# Altium footprint library PcbLib1.PcbLib: 4 footprints
Each footprint in its own frame and in the unit in brackets; x right, y up, seen from the top. Pads: shape width x height; smd on the part's side, far side on the other; paste and mask are expansions set on the pad; w line width, h text height; cw(c..) or ccw(c..) is an arc to the next point about the centre after c.
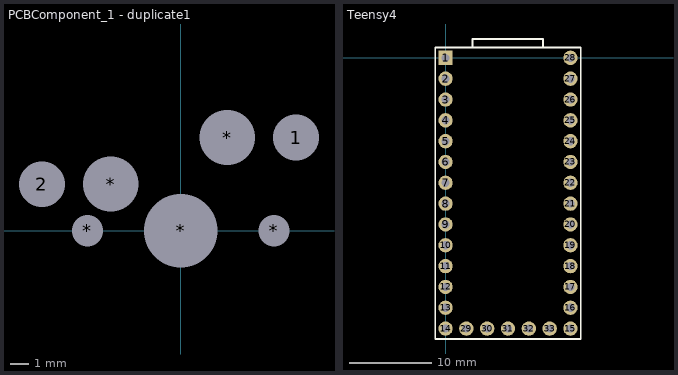
[diagram p0: the footprints below, top view; thin cyan lines are the x and y axes]

## PCBComponent_1 [mil]

## PCBComponent_1 - duplicate [mil]

## PCBComponent_1 - duplicate1 [mil]
pads (7):
  round 60 hole 98.43 square: 1(247.64,200) 2(-297.64,100)
  round 60 hole 66.93 unplated mask+4: *(-200,0)
  round 60 hole 118.11 unplated: *(-150,100) *(100,200)
  round 60 hole 157.48 unplated: *(0,0)
  round 60 hole 66.93 unplated mask+4.02: *(200,0)
Bottom Overlay:
  lines w10: -250,40 -250,25 -235,25 ; -250,175 cw(c-150,175) -150,275 200,275 200,260 ; -165,25 -97.01,25 ; -99.5,24 cw(c-4.37,2.03) -7.77,99.61 ; -4.37,100 200,100 200,140

## Teensy4 [mm]
pads (33):
  rect 1.75x1.75 hole 1: 1(0,0)
  round 1.75 hole 1: 2(0,-2.54) 3(0,-5.08) 4(0,-7.62) 5(0,-10.16) 6(0,-12.7) 7(0,-15.24) 8(0,-17.78) 9(0,-20.32) 10(0,-22.86) 11(0,-25.4) 12(0,-27.94) 13(0,-30.48) 14(0,-33.02) 15(15.24,-33.02) 16(15.24,-30.48) 17(15.24,-27.94) 18(15.24,-25.4) 19(15.24,-22.86) 20(15.24,-20.32) 21(15.24,-17.78) 22(15.24,-15.24) 23(15.24,-12.7) 24(15.24,-10.16) 25(15.24,-7.62) 26(15.24,-5.08) 27(15.24,-2.54) 28(15.24,0) 29(2.54,-33.02) 30(5.08,-33.02) 31(7.62,-33.02) 32(10.16,-33.02) 33(12.7,-33.02)
Top Overlay:
  lines w0.2: -1.27,-34.29 -1.27,1.27 6.985,1.27 16.51,1.27 16.51,-34.29 -1.27,-34.29
  lines w0.254: 3.3,1.3 3.3,2.3 11.9,2.3 11.9,1.4